# Altium schematic symbol library MM8030-2610RJ3.SchLib: 1 symbol
Pins are listed as number, name and electrical type; pins without a type are passive.

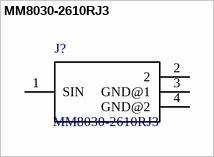
[diagram p0: symbol MM8030-2610RJ3]

## MM8030-2610RJ3
designator J?
Conn Coaxial RCP 0Hz to 11GHz 50Ohm Solder ST SMD Gold Reel; MF: Murata; Package: None; Price: None; SnapEDA_Link: https://www.snapeda.com/parts/MM8030-2610RJ3/Murata%20Electronics%20North%20America/view-part/?ref=snap; Availability: Unavailable; MP: MM8030-2610RJ3; Value: *
footprint *MURATA_MM8030-2610RJ3
pins: 1 SIN, 2, 3 GND@1 (power), 4 GND@2 (power)